# Altium schematic symbol library MAX11156ETC+.SchLib: 1 symbol
Pins are listed as number, name and electrical type; pins without a type are passive.

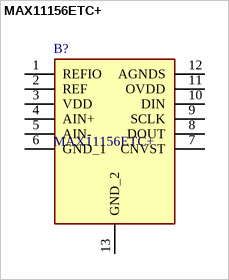
[diagram p0: symbol MAX11156ETC+]

## MAX11156ETC+
designator B?
Analog to Digital Converters - ADC 18-Bit, 500ksps, 5V SAR ADC with Internal Reference in TDFN; Manufacturer_Name: Analog Devices; Geometry.Height: 0.8mm; Mouser Part Number: 700-MAX11156ETC+; Mouser Price/Stock: https://www.mouser.com/Search/Refine.aspx?Keyword=700-MAX11156ETC%2B; Manufacturer_Part_Number: MAX11156ETC+; Datasheet Link: https://componentsearchengine.com/Datasheets/1/MAX11156ETC+.pdf
footprint SON50P300X300X80-13N
pins: 1 REFIO, 2 REF, 3 VDD, 4 AIN+, 5 AIN-, 6 GND_1, 7 CNVST, 8 DOUT, 9 SCLK, 10 DIN, 11 OVDD, 12 AGNDS, 13 GND_2